# EAGLE library part UA733 (library lbm)
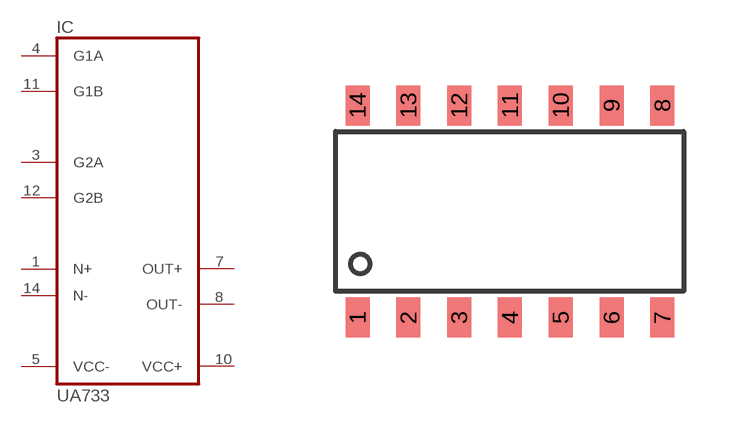
[diagram p33: symbol with the pads of UA733; footprint UA733]

Designator prefix IC

## UA733  [UA733]
1  N+  in
3  G2A
4  G1A
5  VCC-  out
7  OUT+
8  OUT-
10  VCC+  out
11  G1B
12  G2B
14  N-  in

## Footprint UA733 (pad centres in mm)
smd 0.6 x 1: 1 0.55,-4.66; 2 1.82,-4.66; 3 3.09,-4.66; 4 4.36,-4.66; 5 5.63,-4.66; 6 6.9,-4.66; 7 8.17,-4.66; 8 8.17,0.65; 9 6.9,0.65; 10 5.63,0.65; 11 4.36,0.65; 12 3.09,0.65; 13 1.82,0.65; 14 0.55,0.65